# EAGLE library part XYPOT (library Eagle-Lib)
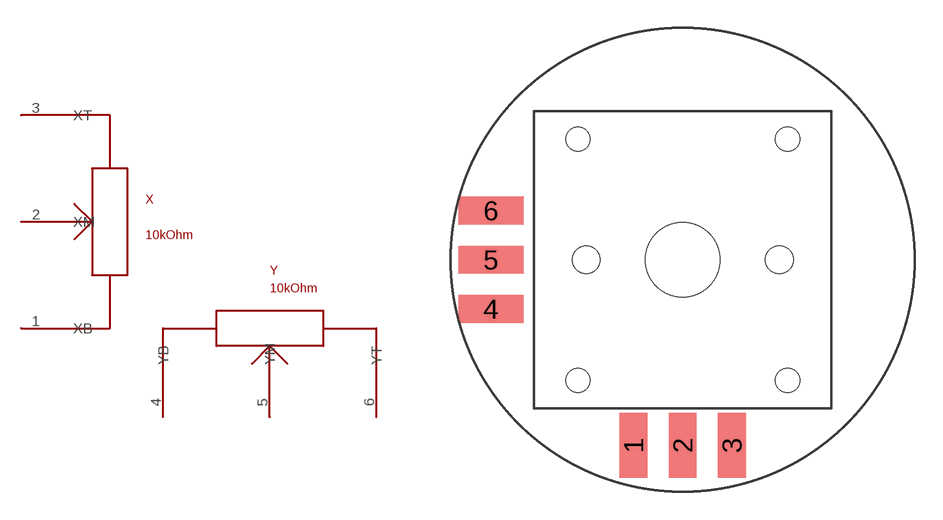
[diagram p4: symbol with the pads of XYPOT; footprint XYPOT]

Designator prefix -

## XYPOT  [XYPOT]
1  XB
2  XM
3  XT
4  YB
5  YM
6  YT

## Footprint XYPOT (pad centres in mm)
smd 1.5 x 3.5: 1 -2.65,-10; 2 0,-10; 3 2.65,-10
smd 3.5 x 1.5: 4 -10.32,-2.65; 5 -10.32,0; 6 -10.32,2.65
hole 1.5 at 5.2,0
hole 1.5 at -5.2,0
hole 4 at 0,0
hole 1.3 at 5.65,6.5
hole 1.3 at -5.65,6.5
hole 1.3 at -5.65,-6.5
hole 1.3 at 5.65,-6.5